# EAGLE library part EUROPWR_2X08 (library halcyonmod_Connectors)
2x08 pin header
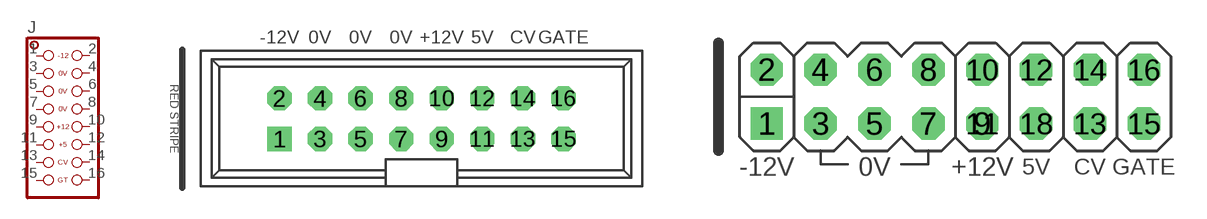
[diagram p1: symbol with the pads of 2X08_EUROPWR_SHROUD; footprints 2X08_EUROPWR_SHROUD, 2X08_EUROPWR_OPEN]

Designator prefix J

## EUROPWR_2X08-SHROUD  [2X08_EUROPWR_SHROUD]
1  1  pas
2  2  pas
3  3  pas
4  4  pas
5  5  pas
6  6  pas
7  7  pas
8  8  pas
9  9  pas
10  10  pas
11  11  pas
12  12  pas
13  13  pas
14  14  pas
15  15  pas
16  16  pas

## EUROPWR_2X08-OPEN  [2X08_EUROPWR_OPEN]
Pads as for 2X08_EUROPWR_SHROUD

## EUROPWR_2X08-SMD  [2X08_EUROPWR_SMD]
Pads as for 2X08_EUROPWR_SHROUD

## Footprint 2X08_EUROPWR_SHROUD (pad centres in mm)
2x08 Shrouded Eurorack Power Header
drill 1.016 square: 1 -8.89,-1.27
drill 1.016 octagon: 2 -8.89,1.27; 3 -6.35,-1.27; 4 -6.35,1.27; 5 -3.81,-1.27; 6 -3.81,1.27; 7 -1.27,-1.27; 8 -1.27,1.27; 9 1.27,-1.27; 10 1.27,1.27; 11 3.81,-1.27; 12 3.81,1.27; 13 6.35,-1.27; 14 6.35,1.27; 15 8.89,-1.27; 16 8.89,1.27

## Footprint 2X08_EUROPWR_OPEN (pad centres in mm)
2x08 Open Eurorack Power Header
drill 1.016 square: 1 -8.89,-1.27
drill 1.016 octagon: 2 -8.89,1.27; 3 -6.35,-1.27; 4 -6.35,1.27; 5 -3.81,-1.27; 6 -3.81,1.27; 7 -1.27,-1.27; 8 -1.27,1.27; 9 1.27,-1.27; 10 1.27,1.27; 11 1.27,-1.27; 12 3.81,1.27; 13 6.35,-1.27; 14 6.35,1.27; 15 8.89,-1.27; 16 8.89,1.27; 18 3.81,-1.27

## Footprint 2X08_EUROPWR_SMD (pad centres in mm)
2x08 SMD Eurorack Power Header
smd 1.016 x 3.15: 1 -8.89,-2.54; 2 -8.89,2.54; 3 -6.35,-2.54; 4 -6.35,2.54; 5 -3.81,-2.54; 6 -3.81,2.54; 7 -1.27,-2.54; 8 -1.27,2.54; 9 1.27,-2.54; 10 1.27,2.54; 11 3.81,-2.54; 12 3.81,2.54; 13 6.35,-2.54; 14 6.35,2.54; 15 8.89,-2.54; 16 8.89,2.54